# Altium schematic symbol library ACS712.SchLib: 1 symbol
Pins are listed as number, name and electrical type; pins without a type are passive.

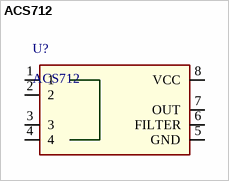
[diagram p0: symbol ACS712]

## ACS712
designator U?
PDF: http://www.tme.eu/pl/Document/75af175f80c090e9b8f9078a0b0b2409/ACS712.PDF; BUY_LINK: *; PRICE: 10.0 z³; ID: ACS712
footprint SO8
pins: 1, 2, 3, 4, 5 GND, 6 FILTER, 7 OUT, 8 VCC